# Altium footprint library Resolver_PCB.PcbLib: 22 footprints (part 2 of 2)
Each footprint in its own frame and in the unit in brackets; x right, y up, seen from the top. Pads: shape width x height; smd on the part's side, far side on the other; paste and mask are expansions set on the pad; w line width, h text height; cw(c..) or ccw(c..) is an arc to the next point about the centre after c.
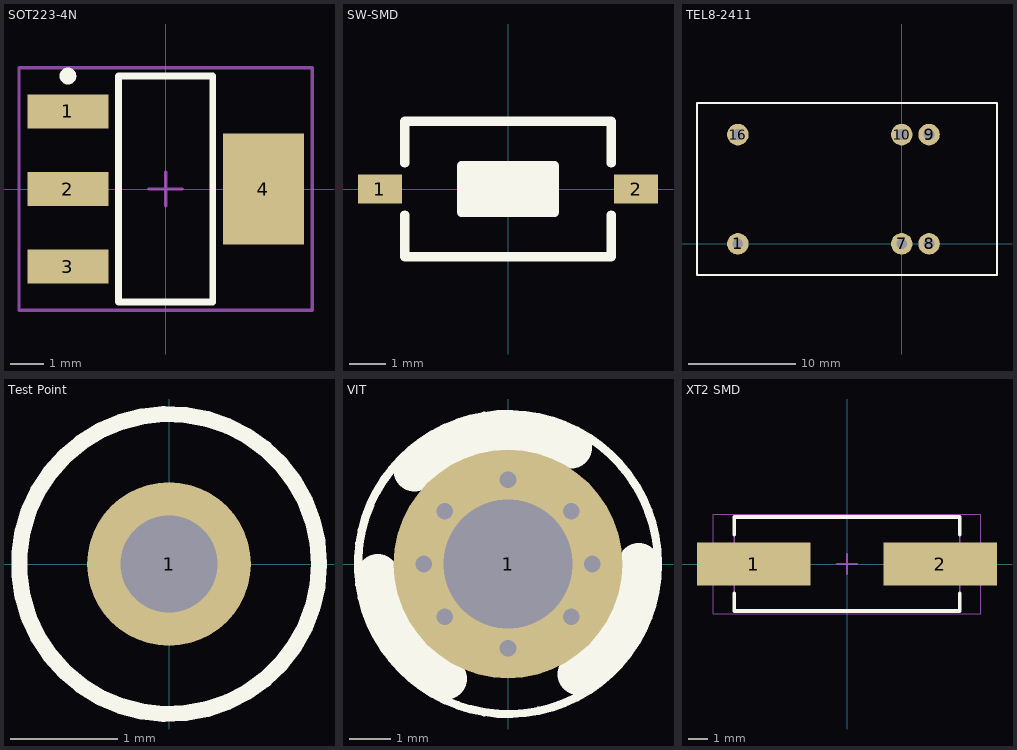
[diagram p1: the footprints below, top view; thin cyan lines are the x and y axes]

## SOT223-4N [mm] "SOT223, 4-Leads, Body 6.5x3.5mm, Pitch 2.3mm, Lead Span 7mm, IPC Medium Density"
height 1.8
pads (4):
  rect 2.4x1 smd: 1(-2.9,2.3) 2(-2.9,0) 3(-2.9,-2.3)
  rect 2.4x3.3 smd: 4(2.9,0)
Top Overlay:
  circle w0.25: c-2.9,3.35 r0.125
  lines w0.2: -1.4,-3.35 -1.4,3.35 1.4,3.35 1.4,-3.35 -1.4,-3.35
Mechanical 15:
  lines w0.1: -0.5,0 0.5,0 ; 0,-0.5 0,0.5 ; -4.35,-3.6 -4.35,3.6 4.35,3.6 4.35,-3.6 -4.35,-3.6
3D body "SW3dPS-Regulator.STEP": height 1.72, standoff 0.02, extent -3.395,-3.274 3.496,3.226

## SW-SMD [mm] "Switch SMD type"
pads (2):
  rect 1.2x0.8 smd: 1(-3.5,0) 2(3.5,0)
Top Overlay:
  rectangle: -1.27,-0.635 1.27,0.635
  lines w0.254: -2.819,-0.711 -2.819,-1.854 2.819,-1.854 2.819,-0.711 ; -2.819,0.711 -2.819,1.854 2.819,1.854 2.819,0.711 ; -1.27,-0.635 -1.27,0.635 1.27,0.635 1.27,-0.635 -1.27,-0.635
3D body "User Library-Button-SMD.step": height 2.5, standoff 0, extent -3.05,-1.85 3.05,1.85

## TEL8-2411 [mm]
pads (6):
  round 2 hole 1: 1(-15.24,0) 7(0,0) 8(2.54,0) 9(2.54,10.16) 10(0,10.16) 16(-15.24,10.16)
Top Overlay:
  lines w0.2: -19.04,-2.9 7.06,-2.9 8.86,-2.9 8.86,13.1 -19.04,13.1 -19.04,-2.9

## Test Point [mil]
pads (1):
  round 60 hole 35.43: 1(0,0)
Top Overlay:
  circle w5.91: c0,0 r55
3D body "User Library-TEST POINT BLU Keystone 5117.step": height 192.34, standoff -121.02, extent -49.99,-49.99 50.01,50.01

## VIT [mm] "VIT"
height 0.005
pads (1):
  round 5.5 hole 3.1: 1(0,0)
via 0,2.032 diameter 0.4 hole 0.4
via 1.524,1.27 diameter 0.4 hole 0.4
via 2.032,0 diameter 0.4 hole 0.4
via 1.524,-1.27 diameter 0.4 hole 0.4
via 0,-2.032 diameter 0.4 hole 0.4
via -1.524,-1.27 diameter 0.4 hole 0.4
via -2.032,0 diameter 0.4 hole 0.4
via -1.524,1.27 diameter 0.4 hole 0.4
Top Overlay:
  circle w0.2: c0,0 r3.61
  lines w1: -3.131,-0.261 ccw(c0,0) -1.49,-2.766 ; -2.25,2.25 cw(c0,0) 1.524,2.794 ; 1.687,-2.651 ccw(c0,0) 3.142,0

## XT2 SMD [mm] "Crystal 2pin SMD"
height 4.2
pads (2):
  rect 5.8x2.2 smd: 1(-4.75,0) 2(4.75,0)
Top Overlay:
  lines w0.2: -5.75,-1.5 -5.75,-2.4 5.75,-2.4 5.75,-1.5 ; -5.75,1.5 -5.75,2.4 5.75,2.4 5.75,1.5
Mechanical 13:
  lines w0.1: -5.75,-2.375 -5.75,2.375 5.75,2.375 5.75,-2.375 -5.75,-2.375
Mechanical 15:
  lines w0.05: -6.825,-2.55 -6.825,2.55 6.825,2.55 6.825,-2.55 -6.825,-2.55
  lines w0.1: -0.5,0 0.5,0 ; 0,-0.5 0,0.5
3D body "Crystal HC49_US-SM.step": height 4.3, standoff 0, extent -6.4,-2.415 6.4,2.415